# Altium schematic symbol library SCH - POWER - SWITCHMODE - TI TPS61041DBV.SchLib: 1 symbol
Pins are listed as number, name and electrical type; pins without a type are passive.

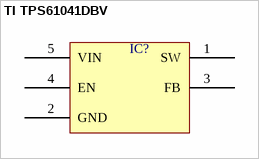
[diagram p0: symbol TI TPS61041DBV]

## TI TPS61041DBV
designator IC?  (value not drawn)
pins: 1 SW, 2 GND, 3 FB, 4 EN, 5 VIN